# Altium footprint library RUssery.PcbLib: 36 footprints (part 1 of 3)
Each footprint in its own frame and in the unit in brackets; x right, y up, seen from the top. Pads: shape width x height; smd on the part's side, far side on the other; paste and mask are expansions set on the pad; w line width, h text height; cw(c..) or ccw(c..) is an arc to the next point about the centre after c.
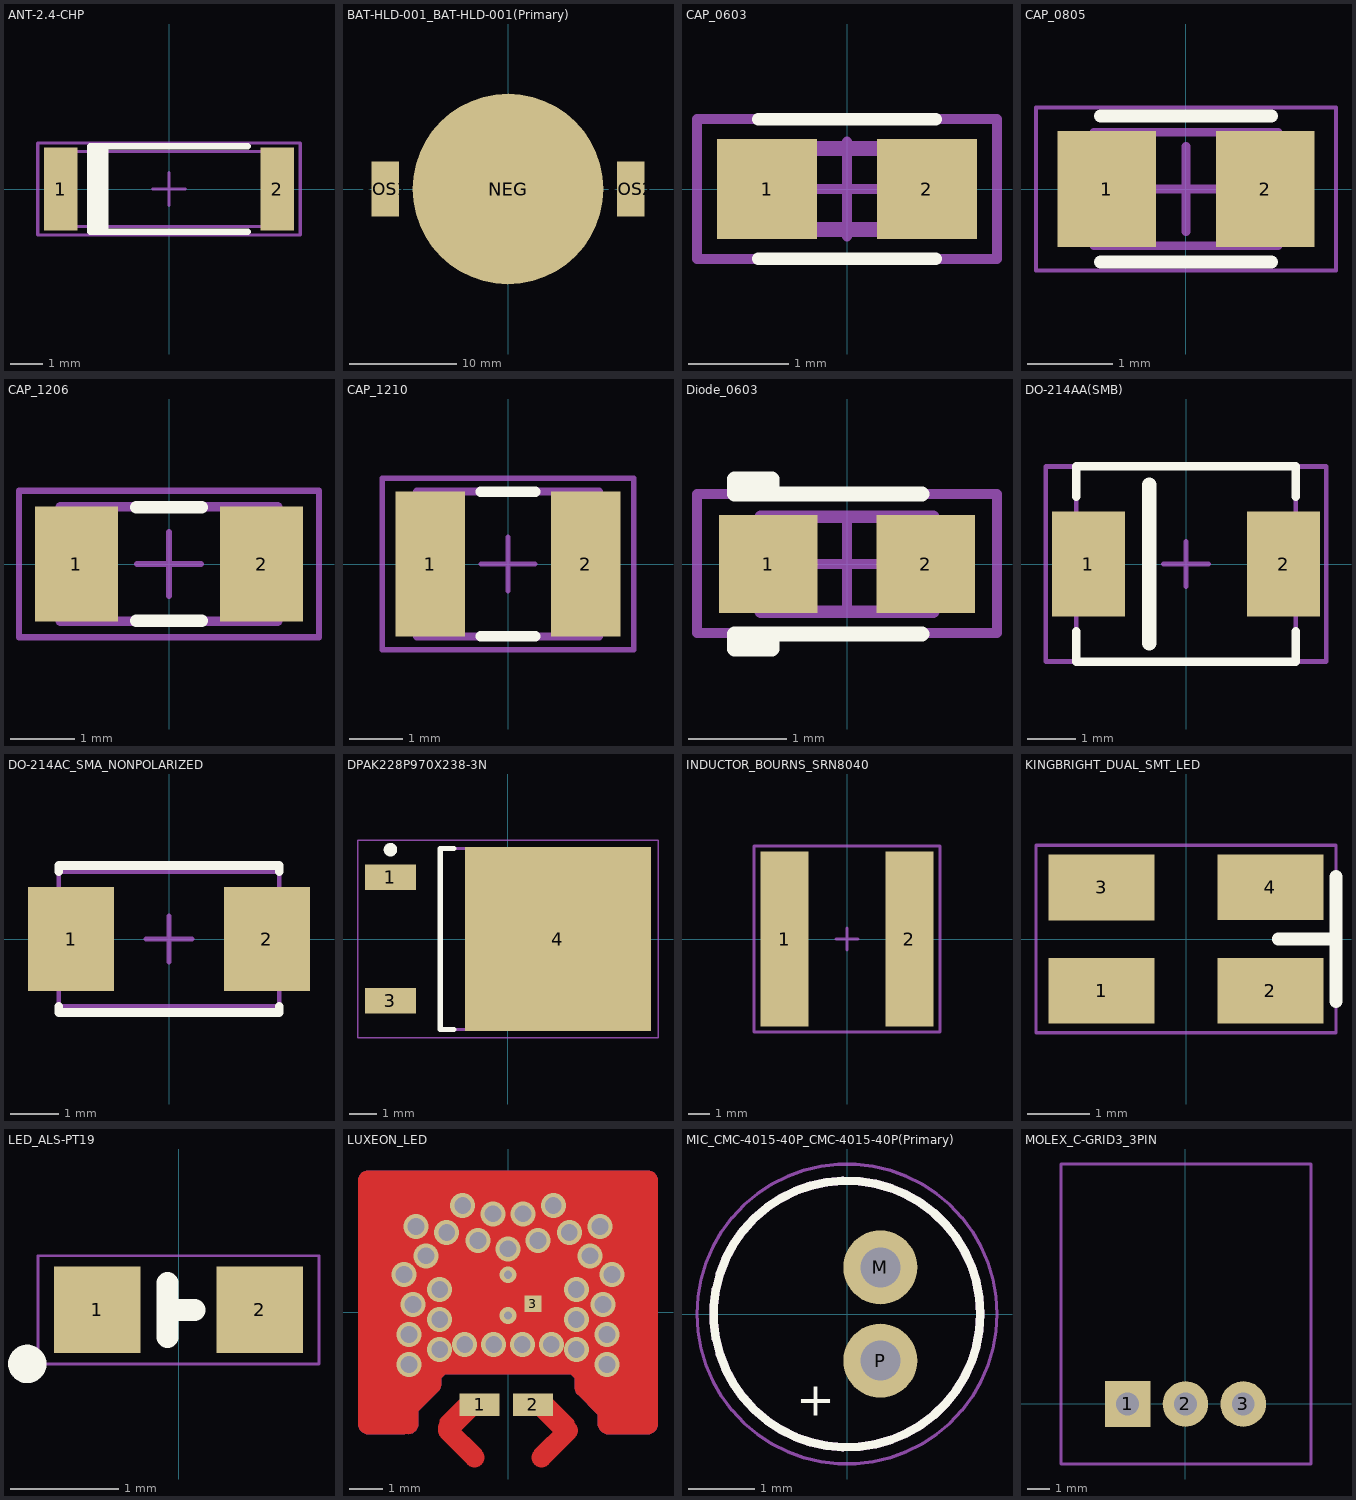
[diagram p0: the footprints below, top view; thin cyan lines are the x and y axes]

## ANT-2.4-CHP [mil]
pads (2):
  rect 40x100 smd: 1(-130,0) 2(130,0)
Top Overlay:
  rectangle: -94.47,-51.18 -72.82,51.18
  lines w7.87: 94.49,-51.18 -94.49,-51.18 -94.49,51.18 94.49,51.18
Mechanical 13:
  lines w3.94: -130,-45 130,-45 130,45 -130,45 -130,-45
Mechanical 15:
  lines w3.94: -19.69,0 19.68,0 ; 0,-19.68 0,19.69 ; 157.48,-55.12 157.48,55.12 ; 157.48,-55.12 -157.48,-55.12 -157.48,55.12 157.48,55.12 ; 157.48,-55.12 157.48,-55.12 ; 157.48,-55.12 157.48,55.12 ; 157.48,55.12 157.48,55.12
3D body: height 40, standoff 0, extent -130,-45 130,45

## BAT-HLD-001_BAT-HLD-001(Primary) [mm]
pads (3):
  round 17.78 smd: NEG(0,0)
  rect 2.54x5.08 smd: POS1(-11.43,0) POS2(11.43,0)
3D body "BAT-HLD-001-TR--3DModel-STEP-56544.STEP": height 4.33, standoff 0.01, extent -11.43,-7.747 11.43,7.747

## CAP_0603 [mm]
pads (2):
  rect 1x1 smd mask+0.076: 1(-0.8,0) 2(0.8,0)
Top Overlay:
  lines w0.127: -0.889,-0.699 0.889,-0.699 ; -0.889,0.699 0.889,0.699
Mechanical 13:
  lines w0.15: -0.875,-0.406 -0.875,0.406 0.875,0.406 0.875,-0.406 -0.875,-0.406
Mechanical 15:
  lines w0.1: -0.475,0 0.475,0 ; 0,-0.475 0,0.475 ; -1.5,-0.7 -1.5,0.7 1.5,0.7 1.5,-0.7 -1.5,-0.7
3D body "CAP_0603_BROWN.step": height 0.86, standoff 0, extent -0.8,-0.4 0.8,0.4

## CAP_0805 [mm] "Chip Capacitor, 2-Leads, Body 2.00x0.94mm, IPC Medium Density"
height 0.65
pads (2):
  rect 1.15x1.35 smd: 1(-0.925,0) 2(0.925,0)
Top Overlay:
  lines w0.152: -1,-0.85 1,-0.85 ; -1,0.85 1,0.85
Mechanical 13:
  lines w0.1: -1.075,-0.66 -1.075,0.66 1.075,0.66 1.075,-0.66 -1.075,-0.66
Mechanical 15:
  lines w0.05: -1.75,-0.95 -1.75,0.95 1.75,0.95 1.75,-0.95 -1.75,-0.95
  lines w0.1: -0.5,0 0.5,0 ; 0,-0.5 0,0.5
3D body: height 0.65, standoff 0, extent -0.675,-0.66 0.675,0.66
3D body: height 0.65, standoff 0, extent -1.075,-0.66 -0.675,0.66
3D body: height 0.65, standoff 0, extent 0.675,-0.66 1.075,0.66

## CAP_1206 [mm]
pads (2):
  rect 1.3x1.8 smd mask+0.076: 1(-1.45,0) 2(1.45,0)
Top Overlay:
  lines w0.2: -0.508,-0.889 0.508,-0.889 ; -0.508,0.889 0.508,0.889
Mechanical 13:
  lines w0.15: -1.7,-0.9 -1.7,0.9 1.7,0.9 1.7,-0.9 -1.7,-0.9
Mechanical 15:
  lines w0.1: -0.5,0 0.5,0 ; 0,-0.5 0,0.5 ; -2.35,-1.15 -2.35,1.15 2.35,1.15 2.35,-1.15 -2.35,-1.15
3D body "CAP_1206_BROWN.step": height 0.77, standoff -0.01, extent -1.6,-0.8 1.6,0.8

## CAP_1210 [mm]
pads (2):
  rect 1.3x2.7 smd mask+0.076: 1(-1.45,0) 2(1.45,0)
Top Overlay:
  lines w0.2: -0.508,-1.346 0.508,-1.346 ; -0.508,1.346 0.508,1.346
Mechanical 13:
  lines w0.15: -1.7,-1.35 -1.7,1.35 1.7,1.35 1.7,-1.35 -1.7,-1.35
Mechanical 15:
  lines w0.1: -0.5,0 0.5,0 ; 0,-0.5 0,0.5 ; -2.35,-1.6 -2.35,1.6 2.35,1.6 2.35,-1.6 -2.35,-1.6
3D body "CAPC1210_2.5mm.step": height 2.5, standoff 0, extent -1.6,-1.25 1.6,1.25

## Diode_0603 [mm]
pads (2):
  rect 1x1 smd: 1(-0.8,0) 2(0.8,0)
Top Overlay:
  lines w0.152: 0.762,-0.711 -0.762,-0.711 ; 0.762,0.711 -0.762,0.711 ; -0.762,-0.711 -1.143,-0.711 -1.143,-0.864 -0.762,-0.864 -0.762,-0.711 ; -0.762,0.711 -0.762,0.864 -1.143,0.864 -1.143,0.711 -0.762,0.711
Mechanical 13:
  lines w0.127: -0.66,-0.483 -0.66,0.483 ; -0.875,-0.483 -0.875,0.483 0.875,0.483 0.875,-0.483 -0.875,-0.483
Mechanical 15:
  lines w0.1: -0.475,0 0.475,0 ; 0,-0.475 0,0.475 ; -1.524,-0.7 -1.524,0.711 1.524,0.711 1.524,-0.7 -1.524,-0.7
3D body: height 0.85, standoff 0, extent -0.875,-0.475 0.875,0.475

## DO-214AA(SMB) [mil]
pads (2):
  rect 60x86 smd: 1(-80,0) 2(80,0)
Top Overlay:
  lines w7: -90,-55 -90,-80 90,-80 90,-55 ; -90,55 -90,80 90,80 90,55
  lines w12: -30,-65 -30,65
Mechanical 13:
  lines w3.94: -90,-80 -90,80 90,80 90,-80 -90,-80
Mechanical 15:
  lines w3.94: -18.7,0 18.7,0 ; 0,-18.7 0,18.7 ; -115,-80 115,-80 115,80 -115,80 -115,-80
3D body: height 33.46, standoff 0, extent -90,-80 90,80

## DO-214AC_SMA_NONPOLARIZED [mil]
pads (2):
  rect 70x85 smd: 1(-80,0) 2(80,0)
Top Overlay:
  lines w7: -90,-55 -90,-60 90,-60 90,-55 ; -90,55 -90,60 90,60 90,55
Mechanical 13:
  lines w3.94: -90,-55 -90,55 90,55 90,-55 -90,-55
Mechanical 15:
  lines w3.94: -18.7,0 18.7,0 ; 0,-18.7 0,18.7
3D body: height 103.15, standoff 0, extent -90,-55 90,55

## DPAK228P970X238-3N [mm]
pads (3):
  rect 1.9x0.95 smd: 1(-4.35,2.28) 3(-4.35,-2.28)
  rect 6.9x6.8 smd: 4(1.85,0)
Top Overlay:
  circle w0.25: c-4.35,3.305 r0.125
  lines w0.2: -2,-3.35 -2.5,-3.35 -2.5,3.35 -2,3.35
Mechanical 13:
  lines w0.1: -2.5,-3.35 -2.5,3.35 3.7,3.35 3.7,-3.35 -2.5,-3.35
Mechanical 15:
  lines w0.05: -5.55,-3.65 -5.55,3.65 5.55,3.65 5.55,-3.65 -5.55,-3.65
  lines w0.1: -0.5,0 0.5,0 ; 0,-0.5 0,0.5
3D body: height 2.38, standoff 0, extent -2.5,-3.35 3.7,3.35

## INDUCTOR_BOURNS_SRN8040 [mm] "INDUCTOR, BOURNES, MODEL SRN8040"
height 4
pads (2):
  rect 2.2x8 smd: 1(-2.85,0) 2(2.85,0)
Mechanical 15:
  lines w0.127: -0.5,0 0.5,0 ; 0,-0.5 0,0.5 ; -4.25,-4.25 -4.25,4.25 4.25,4.25 4.25,-4.25 -4.25,-4.25
3D body "srn8040_2.STEP": height 4.02, standoff 0.02, extent -4,-4 4,4

## KINGBRIGHT_DUAL_SMT_LED [mm] "3.0 x 2.5 x 1.4mm (LxWxH) DUAL SMT LED"
pads (4):
  rect 1.7x1.05 smd: 1(-1.35,-0.825) 2(1.35,-0.825) 3(-1.35,0.825) 4(1.35,0.825)
Top Overlay:
  lines w0.203: 1.475,0 2.4,0 ; 2.4,-1 2.4,1
Mechanical 15:
  lines w0.05: -2.4,-1.5 -2.4,1.5 2.4,1.5 2.4,-1.5 -2.4,-1.5
3D body "APBL3025.STEP": height 1.42, standoff 0.01, extent -1.5,-1.25 1.5,1.25

## LED_ALS-PT19 [mm] "LED / Phototransistor Footprint"
pads (2):
  rect 0.8x0.8 smd paste-4 mask+0.076: 1(-0.75,3.9) 2(0.75,3.9)
Top Overlay:
  circle w0.203: c-1.4,3.4 r0.076
  lines w0.203: -0.1,3.65 -0.1,4.15 ; -0.1,3.9 0.15,3.9
Mechanical 15:
  lines w0.025: -1.3,3.4 -1.3,4.4 1.3,4.4 1.3,3.4 -1.3,3.4
3D body "ALS-PT19-315C.STEP": height 0.56, standoff -0.04, extent -0.85,3.5 0.85,4.3

## LUXEON_LED [mm]
pads (3):
  rect 1.2x0.67 smd paste-0.1 mask+0: 1(-0.85,-2.775) 2(0.75,-2.775)
  rect 0.5x0.5 smd paste+0 mask+0: 3(0.75,0.25)
via -0.45,2.95 diameter 0.75 hole 0.5
via -0.9,2.15 diameter 0.75 hole 0.5
via -3.12,1.13 diameter 0.75 hole 0.5
via -2.05,0.68 diameter 0.75 hole 0.5
via -2.85,0.23 diameter 0.75 hole 0.5
via -2.05,-0.22 diameter 0.75 hole 0.5
via -2.97,-0.67 diameter 0.75 hole 0.5
via -2.05,-1.12 diameter 0.75 hole 0.5
via -2.97,-1.57 diameter 0.75 hole 0.5
via -1.3,-0.97 diameter 0.75 hole 0.5
via -0.43,-0.97 diameter 0.75 hole 0.5
via -2.46,1.69 diameter 0.75 hole 0.5
via -1.84,2.39 diameter 0.75 hole 0.5
via -2.76,2.57 diameter 0.75 hole 0.5
via -1.36,3.2 diameter 0.75 hole 0.5
via 0,1.9 diameter 0.75 hole 0.5
via 0.45,2.95 diameter 0.75 hole 0.5
via 0.9,2.15 diameter 0.75 hole 0.5
via 1.36,3.2 diameter 0.75 hole 0.5
via 1.84,2.39 diameter 0.75 hole 0.5
via 2.76,2.57 diameter 0.75 hole 0.5
via 2.46,1.69 diameter 0.75 hole 0.5
via 1.3,-0.97 diameter 0.75 hole 0.5
via 2.05,-0.22 diameter 0.75 hole 0.5
via 2.85,0.23 diameter 0.75 hole 0.5
via 2.05,0.68 diameter 0.75 hole 0.5
via 3.12,1.13 diameter 0.75 hole 0.5
via 2.97,-0.67 diameter 0.75 hole 0.5
via 2.97,-1.57 diameter 0.75 hole 0.5
via 2.05,-1.12 diameter 0.75 hole 0.5
via 0.43,-0.97 diameter 0.75 hole 0.5
via 0,1.12 diameter 0.5 hole 0.25
via 0,-0.1 diameter 0.5 hole 0.25
Top Layer:
  region: 0.925,-2.98 1.562,-3.618 1.912,-3.268 1.575,-2.93 1.275,-2.63
  region: -4.2,-3.655 -4.26,-3.655 -4.37,-3.61 -4.455,-3.525 -4.5,-3.415 -4.5,-3.355 -4.5,3.945 -4.5,4.005 -4.455,4.115 -4.37,4.2 -4.26,4.245 -4.2,4.245 4.2,4.245 4.26,4.245 4.37,4.2 4.455,4.115 4.5,4.005 4.5,3.945 4.5,-3.355 4.5,-3.415 4.455,-3.525 4.37,-3.61 4.26,-3.655 4.2,-3.655 3,-3.655 2.94,-3.655 2.83,-3.61 2.745,-3.525 2.7,-3.415 2.7,-3.355 2.7,-3.079 2.088,-2.468 2.067,-2.447 2.034,-2.398 2.011,-2.343 2,-2.285 2,-2.255 2,-1.979 1.876,-1.855 -1.876,-1.855 -2,-1.979 -2,-2.155 -2,-2.185 -2.011,-2.243 -2.034,-2.298 -2.067,-2.347 -2.088,-2.368 -2.7,-2.979 -2.7,-3.355 -2.7,-3.421 -2.755,-3.542 -2.857,-3.627 -2.985,-3.662 -3.05,-3.651 -3.056,-3.652 -3.069,-3.654 -3.081,-3.655 -3.094,-3.655 -3.1,-3.655
  region: -1.275,-2.58 -1.95,-3.255 -1.6,-3.605 -0.925,-2.93
  lines w0.2: -1.275,-2.58 -0.925,-2.93 -1.6,-3.605 -1.95,-3.255 -1.275,-2.58 ; -1.275,-2.58 -1.275,-2.58 ; 0.875,-2.98 1.55,-3.655 1.9,-3.305 1.225,-2.63 0.875,-2.98 ; 0.875,-2.98 0.875,-2.98
  lines w0.6: -3.1,-3.355 -4.2,-3.355 -4.2,3.945 4.2,3.945 4.2,-3.355 3,-3.355 3,-2.955 2.3,-2.255 2.3,-1.855 2,-1.555 -2,-1.555 -2.3,-1.855 -2.3,-2.155 -3,-2.855 -3,-3.055 -3,-3.355 ; -1.7,-3.355 -1.8,-3.455 -1.8,-3.555 -1,-4.355 ; 1,-4.355 1.8,-3.555 ; 1.6,-3.355 1.8,-3.555 ; 1.8,-3.555 1.8,-3.555
Bottom Layer:
  region: -4.2,-3.655 -4.26,-3.655 -4.37,-3.61 -4.455,-3.525 -4.5,-3.415 -4.5,-3.355 -4.5,3.945 -4.5,4.005 -4.455,4.115 -4.37,4.2 -4.26,4.245 -4.2,4.245 4.2,4.245 4.26,4.245 4.37,4.2 4.455,4.115 4.5,4.005 4.5,3.945 4.5,-3.355 4.5,-3.415 4.455,-3.525 4.37,-3.61 4.26,-3.655 4.2,-3.655 3,-3.655 2.94,-3.655 2.83,-3.61 2.745,-3.525 2.7,-3.415 2.7,-3.355 2.7,-3.079 2.088,-2.468 2.067,-2.447 2.034,-2.398 2.011,-2.343 2,-2.285 2,-2.255 2,-1.979 1.876,-1.855 -1.876,-1.855 -2,-1.979 -2,-2.155 -2,-2.185 -2.011,-2.243 -2.034,-2.298 -2.067,-2.347 -2.088,-2.368 -2.7,-2.979 -2.7,-3.355 -2.7,-3.421 -2.755,-3.542 -2.857,-3.627 -2.985,-3.662 -3.05,-3.651 -3.056,-3.652 -3.069,-3.654 -3.081,-3.655 -3.094,-3.655 -3.1,-3.655
Top Paste:
  region: -1.2,-0.455 -1.2,0.945 -0.48,0.945 -0.48,0.845 -0.471,0.751 -0.399,0.578 -0.267,0.446 -0.094,0.374 0.094,0.374 0.267,0.446 0.399,0.578 0.471,0.751 0.48,0.845 0.48,0.945 1.2,0.945 1.2,-0.455 0.48,-0.455 0.48,-0.355 0.471,-0.261 0.399,-0.088 0.267,0.044 0.094,0.116 -0.094,0.116 -0.267,0.044 -0.399,-0.088 -0.471,-0.261 -0.48,-0.355 -0.48,-0.455
  region: 0.825,0.92 1.175,0.57 1.813,1.208 1.463,1.558 1.125,1.22
  region: -1.175,0.57 -0.825,0.92 -1.462,1.558 -1.812,1.208 -1.475,0.87
  region: -1.1,-2.975 -1.325,-2.75 -1.825,-3.25 -1.6,-3.475 -1.3,-3.175
  region: 1.225,-2.75 1,-2.975 1.5,-3.475 1.725,-3.25 1.425,-2.95
  lines w0.1: -1.812,1.208 -1.462,1.558 -0.825,0.92 -1.175,0.57 -1.475,0.87 -1.812,1.208 ; -1.2,-0.455 -1.2,0.945 -0.48,0.945 -0.48,0.845 ccw(c0,0.845) 0.48,0.845 0.48,0.945 1.2,0.945 1.2,-0.455 0.48,-0.455 0.48,-0.355 ccw(c0,-0.355) -0.48,-0.355 -0.48,-0.455 -1.2,-0.455 ; 0.825,0.92 1.125,1.22 1.463,1.558 1.813,1.208 1.175,0.57 0.825,0.92
Top Solder:
  region: -1.25,-0.5 -1.25,-0.51 -1.243,-0.529 -1.229,-0.543 -1.21,-0.55 -1.2,-0.55 1.2,-0.55 1.21,-0.55 1.229,-0.543 1.243,-0.529 1.25,-0.51 1.25,-0.5 1.25,0.95 1.25,0.96 1.243,0.979 1.229,0.993 1.21,1 1.2,1 0.485,1 0.484,1 0.483,1 0.482,1 0.481,1 0.48,1 0.479,1 0.478,1 0.477,1 0.476,1 0.475,1 -1.2,1 -1.21,1 -1.229,0.993 -1.243,0.979 -1.25,0.96 -1.25,0.95
  region: 1.225,-2.63 0.875,-2.98 1.512,-3.618 1.862,-3.268 1.525,-2.93
  region: -0.975,-2.98 -1.325,-2.63 -1.963,-3.268 -1.613,-3.618 -1.275,-3.28
  region: -1.175,0.57 -0.825,0.92 -1.462,1.558 -1.812,1.208 -1.475,0.87
  region: 0.825,0.92 1.175,0.57 1.813,1.207 1.463,1.557 1.125,1.22
  lines w0.1: -0.5,-0.5 0.5,-0.5 ; -0.5,0.95 0.475,0.95 ; -0.48,-0.5 -1.2,-0.5 -1.2,0.95 -0.485,0.95 -0.48,0.945 ; 0.48,-0.5 1.2,-0.5 1.2,0.95 0.485,0.95 0.48,0.945 ; -1.963,-3.268 -1.325,-2.63 -0.975,-2.98 -1.275,-3.28 -1.613,-3.618 -1.963,-3.268 ; -1.812,1.208 -1.475,0.87 -1.175,0.57 -0.825,0.92 -1.462,1.558 -1.812,1.208 ; 0.825,0.92 1.175,0.57 1.813,1.207 1.463,1.557 1.125,1.22 0.825,0.92 ; 0.875,-2.98 1.512,-3.618 1.862,-3.268 1.525,-2.93 1.225,-2.63 0.875,-2.98
3D body "DRM002.stp": height 1.98, standoff 0.02, extent -1.575,-3.2 1.475,1.29

## MIC_CMC-4015-40P_CMC-4015-40P(Primary) [mm]
pads (2):
  round 1.108 hole 0.6: M(0.5,0.7) P(0.5,-0.7)
Top Overlay:
  circle w0.127: c0,0 r2
  text "+" at -0.762,-1.524 h0.51
Mechanical 4:
  circle w0.127: c0,0 r2
  circle w0.127: c0,0 r2
Mechanical 16:
  circle w0.05: c0,0 r2.25
3D body "CUI_CMC-4015-40P.step": height 1.74, standoff -1.56, extent -2,-2 2,2

## MOLEX_C-GRID3_3PIN [mm]
pads (3):
  rect 2x2 hole 1: 1(-2.54,0)
  round 2 hole 1: 2(0,0) 3(2.54,0)
Mechanical 15:
  lines w0.127: -5.461,-2.634 -5.461,10.541 5.51,10.541 5.51,-2.635 -5.46,-2.635
3D body "901362203.stp": height 7.23, standoff -2.88, extent -5.46,-2.635 5.51,10.505